# Altium integrated library SJ1-3524NG STEREO JACK.IntLib: 1 symbol
Pins are listed as number, name and electrical type; pins without a type are passive.

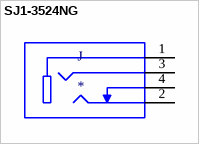
[diagram p0: symbol SJ1-3524NG]

## SJ1-3524NG
designator J
3.5 mm, Stereo, Right Angle, Through Hole, Isolated Ground, Audio Jack Connector; MP: SJ1-3524NG; MF: CUI Devices; CUI_purchase_URL: https://www.cuidevices.com/product/interconnect/connectors/audio-connectors/jacks/sj1-352xng-series?utm_source=snapeda.com&utm_medium=referral&utm_campaign=snapedaBOM; Price: None; SnapEDA_Link: https://www.snapeda.com/parts/SJ1-3524NG/CUI%20Devices/view-part/45902/?ref=snap; Package: None; Value: *; Availability: Unavailable
footprint CUI_SJ1-3524NG
pins: 1, 2, 3, 4